# EAGLE library part DWM1000 (library Decawave)
Decawave Module DWM1000 DecaWave module with on-board chip antenna
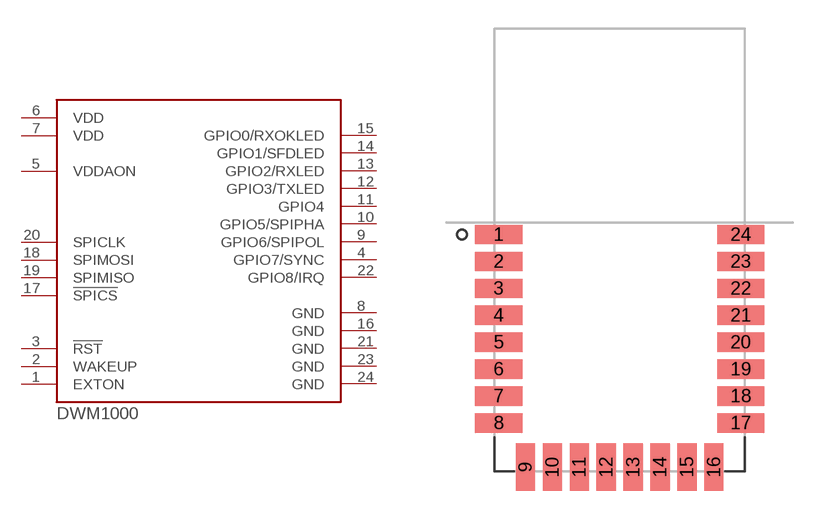
[diagram p0: symbol with the pads of DWM1000; footprint DWM1000]

Designator prefix -

## DWM1000  [DWM1000]
1  EXTON  in
2  WAKEUP  in
3  !RST  out
4  GPIO7/SYNC
5  VDDAON  pwr
6  VDD  pwr
7  VDD  pwr
8  GND  pwr
9  GPIO6/SPIPOL
10  GPIO5/SPIPHA
11  GPIO4
12  GPIO3/TXLED
13  GPIO2/RXLED
14  GPIO1/SFDLED
15  GPIO0/RXOKLED
16  GND  pwr
17  !SPICS  in
18  SPIMOSI  in
19  SPIMISO  out
20  SPICLK  out
21  GND  pwr
22  GPIO8/IRQ
23  GND  pwr
24  GND  pwr

## Footprint DWM1000 (pad centres in mm)
DWM1000 Module
smd 2.45 x 1: 1 -6.295,12.3; 2 -6.295,10.9; 3 -6.295,9.5; 4 -6.295,8.1; 5 -6.295,6.7; 6 -6.295,5.3; 7 -6.295,3.9; 8 -6.292,2.5; 17 6.295,2.5; 18 6.295,3.9; 19 6.295,5.3; 20 6.295,6.7; 21 6.295,8.1; 22 6.295,9.5; 23 6.295,10.9; 24 6.295,12.3
smd 1 x 2.45: 9 -4.9,0.205; 10 -3.5,0.205; 11 -2.1,0.205; 12 -0.7,0.205; 13 0.7,0.205; 14 2.1,0.205; 15 3.5,0.205; 16 4.9,0.205